# EAGLE library part USB4105-GF-A (library USB4105-GF-A)
Check availability <https://pricing.snapeda.com/parts/USB4105-GF-A/GCT/view-part?ref=eda>
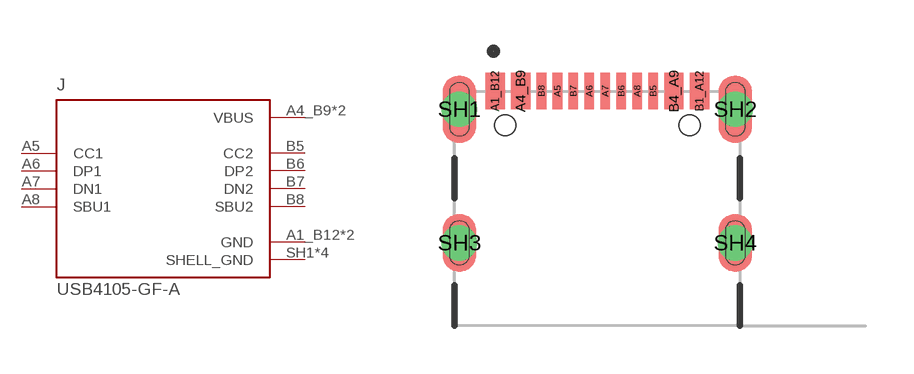
[diagram p0: symbol with the pads of GCT_USB4105-GF-A; footprint GCT_USB4105-GF-A]

Designator prefix J

## USB4105-GF-A (Availability: In Stock; Check_prices: https://www.snapeda.com/parts/USB4105-GF-A/Global+Connector+Technology/view-part/?ref=eda; Description: USB-C (USB TYPE-C) USB 2.0 Receptacle Connector 24 (16+8 Dummy) Position Surface Mount, Right Angle; Through Hole; MF: GCT; MP: USB4105-GF-A; Package: None; Price: None; Purchase-URL: https://www.snapeda.com/api/url_track_click_mouser/?unipart_id=4423780&manufacturer=GCT&part_name=USB4105-GF-A&search_term=usb4105-gf-a; SnapEDA_Link: https://www.snapeda.com/parts/USB4105-GF-A/Global+Connector+Technology/view-part/?ref=snap)  [GCT_USB4105-GF-A]
A1_B12  GND  pwr
A4_B9  VBUS  pwr
A5  CC1
A6  DP1
A7  DN1
A8  SBU1
B1_A12  GND  pwr
B4_A9  VBUS  pwr
B5  CC2
B6  DP2
B7  DN2
B8  SBU2
SH1  SHELL_GND  pwr
SH2  SHELL_GND  pwr
SH3  SHELL_GND  pwr
SH4  SHELL_GND  pwr

## Footprint GCT_USB4105-GF-A (pad centres in mm)
smd 0.6 x 1.15: A1_B12 -3.2,4.755; A4_B9 -2.4,4.755; B1_A12 3.2,4.755; B4_A9 2.4,4.755
smd 0.3 x 1.15: A5 -1.25,4.755; A6 -0.25,4.755; A7 0.25,4.755; A8 1.25,4.755; B5 1.75,4.755; B6 0.75,4.755; B7 -0.75,4.755; B8 -1.75,4.755
drill 0.6 pad 1: SH1 -4.32,4.18; SH2 4.32,4.18; SH3 -4.32,0; SH4 4.32,0
hole 0.65 at 2.89,3.68
hole 0.65 at -2.89,3.68